# Altium footprint library ToponLib.PcbLib: 57 footprints (part 3 of 4)
Each footprint in its own frame and in the unit in brackets; x right, y up, seen from the top. Pads: shape width x height; smd on the part's side, far side on the other; paste and mask are expansions set on the pad; w line width, h text height; cw(c..) or ccw(c..) is an arc to the next point about the centre after c.
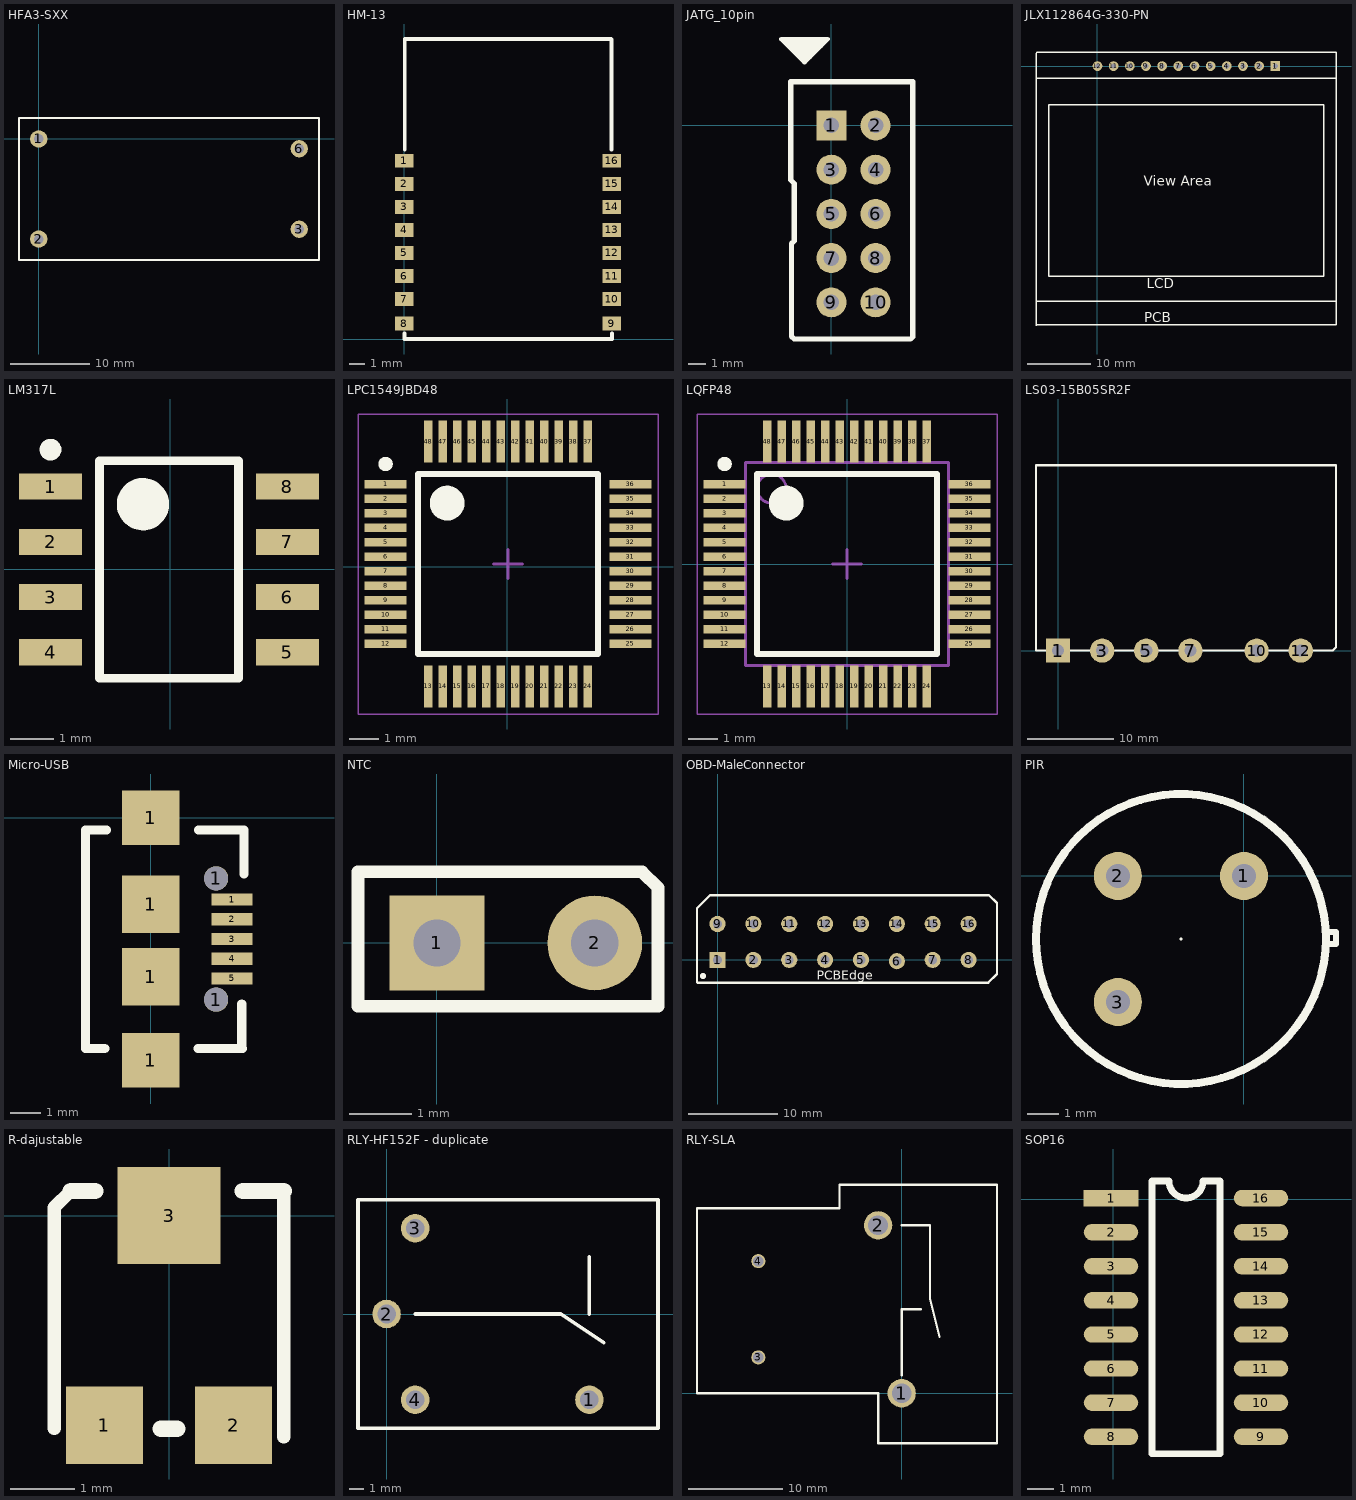
[diagram p2: the footprints below, top view; thin cyan lines are the x and y axes]

## HFA3-SXX [mm]
pads (4):
  round 2.2 hole 1.2: 1(0,0) 2(0,-12.7) 3(33,-11.45) 6(33,-1.25)
Top Overlay:
  lines w0.254: -2.5,-15.35 -2.5,2.65 35.5,2.65 35.5,-15.35 -2.5,-15.35

## HM-13 [mm]
pads (16):
  rect 1.2x0.9 smd: 1(0,11.6) 2(0,10.1) 3(0,8.6) 4(0,7.1) 5(0,5.6) 6(0,4.1) 7(0,2.6) 8(0,1) 9(13.5,1) 10(13.5,2.6) 11(13.5,4.1) 12(13.5,5.6) 13(13.5,7.1) 14(13.5,8.6) 15(13.5,10.1) 16(13.5,11.6)
Top Overlay:
  lines w0.254: 0,0.356 0,0 13.513,0 13.513,0.356 ; 0.025,12.319 0.025,19.507 0.051,19.533 3.404,19.533 10.109,19.533 13.462,19.533 13.487,19.507 13.487,12.344

## JATG_10pin [mil]
pads (10):
  rect 68x68 hole 35: 1(0,0)
  round 68 hole 35: 2(100,0) 3(0,-100) 4(100,-100) 5(0,-200) 6(100,-200) 7(0,-300) 8(100,-300) 9(0,-400) 10(100,-400)
Top Overlay:
  lines w10: -93.28,179.42 -93.21,179.49 -24.32,179.49 ; -85.8,171.15 -85.31,170.66 -33.14,170.66 ; -80.68,195.56 -112.97,195.56 -113.36,195.17 -112.97,195.17 -60.37,142.57 -60.21,142.57 -61.39,142.57 -61.24,142.57 -8.24,195.56 -96.04,195.56 -99.46,188.2 -15.6,188.2 ; -73.17,162.06 -41.74,162.06 ; -66.23,154.72 -49.08,154.72
  lines w11.81: -92,-123 -84,-131 -84,-261 -90,-267 -90,-477 -84,-483 179,-483 184,-478 184,99 -61,99 -92,99 -92,-123

## JLX112864G-330-PN [mil]
pads (12):
  rect 60x60 hole 32: 1(1100,0)
  round 60 hole 32: 2(1000,0) 3(900,0) 4(800,0) 6(600,0) 7(500,0) 8(400,0) 9(300,0) 10(200,0) 11(100,0) 12(0,0)
  round 60 hole 30: 5(700,0)
Top Overlay:
  lines w8: -380,-1455 1475,-1455 ; -380,-75 1475,-75 ; -380,-1605 -380,-1510 -380,-270 -380,80 -375,85 -100,85 1475,85 1475,-1600 -375,-1600 -380,-1605 ; -300,-1300 1400,-1300 1400,-240 1175,-240 515,-240 -300,-240 -300,-1300
  text "View Area" at 285,-740 h60
  text "PCB" at 290,-1585 h60
  text "LCD" at 305,-1375 h60

## LM317L [mm]
pads (8):
  rect 1.45x0.6 smd: 1(-2.75,1.905) 2(-2.75,0.635) 3(-2.75,-0.635) 4(-2.75,-1.905) 5(2.7,-1.905) 6(2.7,-0.635) 7(2.7,0.635) 8(2.7,1.905)
Top Overlay:
  circle w0.25: c-2.75,2.755 r0.125
  circle w0.6: c-0.625,1.5 r0.3
  lines w0.2: -1.625,-2.5 -1.625,2.5 1.575,2.5 1.575,-2.5 -1.625,-2.5

## LPC1549JBD48 [mm]
pads (48):
  rect 1.45x0.3 smd: 1(-4.2,2.852) 2(-4.2,2.352) 3(-4.2,1.852) 4(-4.2,1.352) 5(-4.2,0.852) 6(-4.2,0.352) 7(-4.2,-0.148) 8(-4.2,-0.648) 9(-4.2,-1.148) 10(-4.2,-1.648) 11(-4.2,-2.148) 12(-4.2,-2.648) 25(4.25,-2.648) 26(4.25,-2.148) 27(4.25,-1.648) 28(4.25,-1.148) 29(4.25,-0.648) 30(4.25,-0.148) 31(4.25,0.352) 32(4.25,0.852) 33(4.25,1.352) 34(4.25,1.852) 35(4.25,2.352) 36(4.25,2.852)
  rect 0.3x1.45 smd: 13(-2.725,-4.123) 14(-2.225,-4.123) 15(-1.725,-4.123) 16(-1.225,-4.123) 17(-0.725,-4.123) 18(-0.225,-4.123) 19(0.275,-4.123) 20(0.775,-4.123) 21(1.275,-4.123) 22(1.775,-4.123) 23(2.275,-4.123) 24(2.775,-4.123) 37(2.775,4.327) 38(2.275,4.327) 39(1.775,4.327) 40(1.275,4.327) 41(0.775,4.327) 42(0.275,4.327) 43(-0.225,4.327) 44(-0.725,4.327) 45(-1.225,4.327) 46(-1.725,4.327) 47(-2.225,4.327) 48(-2.725,4.327)
Top Overlay:
  circle w0.25: c-4.2,3.552 r0.125
  circle w0.6: c-2.075,2.202 r0.3
  lines w0.2: -3.075,-2.998 -3.075,3.202 3.125,3.202 3.125,-2.998 -3.075,-2.998
Mechanical 15:
  lines w0.05: -5.15,-5.073 -5.15,5.277 5.2,5.277 5.2,-5.073 -5.15,-5.073
  lines w0.1: -0.475,0.102 0.525,0.102 ; 0.025,-0.398 0.025,0.602

## LQFP48 [mm] "LPC1549JBD48"
height 1.6
pads (48):
  rect 1.45x0.3 smd: 1(-4.225,2.75) 2(-4.225,2.25) 3(-4.225,1.75) 4(-4.225,1.25) 5(-4.225,0.75) 6(-4.225,0.25) 7(-4.225,-0.25) 8(-4.225,-0.75) 9(-4.225,-1.25) 10(-4.225,-1.75) 11(-4.225,-2.25) 12(-4.225,-2.75) 25(4.225,-2.75) 26(4.225,-2.25) 27(4.225,-1.75) 28(4.225,-1.25) 29(4.225,-0.75) 30(4.225,-0.25) 31(4.225,0.25) 32(4.225,0.75) 33(4.225,1.25) 34(4.225,1.75) 35(4.225,2.25) 36(4.225,2.75)
  rect 0.3x1.45 smd: 13(-2.75,-4.225) 14(-2.25,-4.225) 15(-1.75,-4.225) 16(-1.25,-4.225) 17(-0.75,-4.225) 18(-0.25,-4.225) 19(0.25,-4.225) 20(0.75,-4.225) 21(1.25,-4.225) 22(1.75,-4.225) 23(2.25,-4.225) 24(2.75,-4.225) 37(2.75,4.225) 38(2.25,4.225) 39(1.75,4.225) 40(1.25,4.225) 41(0.75,4.225) 42(0.25,4.225) 43(-0.25,4.225) 44(-0.75,4.225) 45(-1.25,4.225) 46(-1.75,4.225) 47(-2.25,4.225) 48(-2.75,4.225)
Top Overlay:
  circle w0.25: c-4.225,3.45 r0.125
  circle w0.6: c-2.1,2.1 r0.3
  lines w0.2: -3.1,-3.1 -3.1,3.1 3.1,3.1 3.1,-3.1 -3.1,-3.1
Mechanical 13:
  circle w0.1: c-2.6,2.6 r0.5
  lines w0.1: -3.5,-3.5 -3.5,3.5 3.5,3.5 3.5,-3.5 -3.5,-3.5
Mechanical 15:
  lines w0.05: -5.175,-5.175 -5.175,5.175 5.175,5.175 5.175,-5.175 -5.175,-5.175
  lines w0.1: -0.5,0 0.5,0 ; 0,-0.5 0,0.5
3D body: height 1.6, standoff 0.05, extent -3.5,-3.5 3.5,3.5

## LS03-15B05SR2F [mm]
pads (6):
  rect 2.8x2.8 hole 1.4: 1(0,0)
  round 2.8 hole 1.4: 3(5.08,0) 5(10.16,0) 7(15.24,0) 10(22.86,0) 12(27.94,0)
Top Overlay:
  lines w0.254: -2.54,0 -2.54,21.336 32.004,21.336 32.004,0.381 31.623,0 -2.54,0

## Micro-USB [mm]
pads (11):
  rect 1.9x1.8 smd: 1(0,-8) 1(0,0)
  rect 1.9x1.9 smd: 1(0,-5.25) 1(0,-2.85)
  round 0.8 hole 0.8: 1(2.15,-6) 1(2.15,-2)
  rect 1.35x0.4 smd: 1(2.675,-2.7) 2(2.675,-3.35) 3(2.675,-4) 4(2.675,-4.65) 5(2.675,-5.3)
Top Overlay:
  lines w0.3: -1.524,-7.62 -2.159,-7.62 -2.159,-0.406 -1.473,-0.406 ; 1.549,-7.62 3.023,-7.62 2.972,-7.569 ; 1.575,-0.406 3.073,-0.406 3.073,-1.854 ; 2.997,-7.595 2.997,-6.147

## NTC [mil]
pads (2):
  rect 60x60 hole 30: 1(0,0)
  round 60 hole 30: 2(100,0)
Top Overlay:
  lines w8: -50,-40 140,-40 140,35 130,45 -50,45 -50,-40

## OBD-MaleConnector [mm]
pads (16):
  rect 1.8x1.8 hole 1: 1(0,0)
  round 1.8 hole 1: 2(4,0) 3(8,0) 4(12,0) 5(16,0) 6(20,-0.152) 7(24,0) 8(28,0) 9(0,4) 10(4,4) 11(8,4) 12(12,4) 13(16,4) 14(20,4) 15(24,4) 16(28,4)
Top Overlay:
  circle w0.4: c-1.626,-1.803 r0.137
  lines w0.254: -2.286,-2.489 -2.21,-2.565 -0.127,-2.565 30.175,-2.565 31.166,-1.575 31.166,6.325 30.277,7.214 -0.838,7.214 -2.286,5.766 -2.286,-2.489
  text "PCBEdge" at 11.074,-2.21 h1

## PIR [mil]
pads (4):
  round 60 hole 30: 1(0,0) 2(-157.48,0) 3(-157.48,-157.48)
  round 3.94 on Top Overlay: 4(-78.74,-78.74)
Top Overlay:
  circle w10: c-78.74,-78.74 r181.1
  lines w8: 105,-70 115,-70 115,-85 108.62,-85

## R-dajustable [mm]
pads (3):
  rect 1.2x1.2 smd: 1(-1,-3.25) 2(1,-3.25)
  rect 1.6x1.5 smd: 3(0,0)
Top Overlay:
  lines w0.203: -1.778,-3.302 -1.778,0.127 -1.524,0.381 ; 1.778,-3.429 1.778,0.381
  lines w0.254: -1.524,0.381 -1.143,0.381 ; -0.127,-3.302 0.127,-3.302 ; 1.143,0.381 1.778,0.381

## RLY-HF152F - duplicate [mm]
pads (4):
  round 2 hole 1.3: 1(14.2,-6) 2(0,0) 3(2,6) 4(2,-6)
Top Overlay:
  lines w0.254: 2,0 12.2,0 15.2,-2 ; 14.2,0 14.2,4 ; -2,-8 19,-8 19,8 -2,8 -2,-8

## RLY-SLA [mm]
pads (4):
  round 3 hole 2.1: 1(0,0) 2(-2.5,17.8)
  round 1.5 hole 1.1: 3(-15.2,3.8) 4(-15.2,14)
Top Overlay:
  lines w0.254: 0,1.9 0,8.9 ; 0,17.8 3,17.8 3,10 4,6 ; 0.012,8.9 2.012,8.9 ; -21.7,0 -21.7,19.6 -6.6,19.6 -6.6,22.1 10.1,22.1 10.1,-5.3 -2.5,-5.3 -2.5,0 -21.7,0

## SOP16 [mil]
pads (16):
  rect 80x24 smd: 1(-3.54,1.97)
  oval 80x24 smd: 2(-3.54,-48.03) 3(-3.54,-98.03) 4(-3.54,-148.03) 5(-3.54,-198.03) 6(-3.54,-248.03) 7(-3.54,-298.03) 8(-3.54,-348.03) 9(216.46,-348.03) 10(216.46,-298.03) 11(216.46,-248.03) 12(216.46,-198.03) 13(216.46,-148.03) 14(216.46,-98.03) 15(216.46,-48.03) 16(216.46,1.97)
Top Overlay:
  lines w10: 56.46,-373.03 156.46,-373.03 156.46,26.97 131.46,26.97 cw(c106.46,26.97) 81.46,26.97 56.46,26.97 56.46,-373.03